# Altium footprint library RJ45 10P8C.PcbLib: 1 footprints
Each footprint in its own frame and in the unit in brackets; x right, y up, seen from the top. Pads: shape width x height; smd on the part's side, far side on the other; paste and mask are expansions set on the pad; w line width, h text height; cw(c..) or ccw(c..) is an arc to the next point about the centre after c.
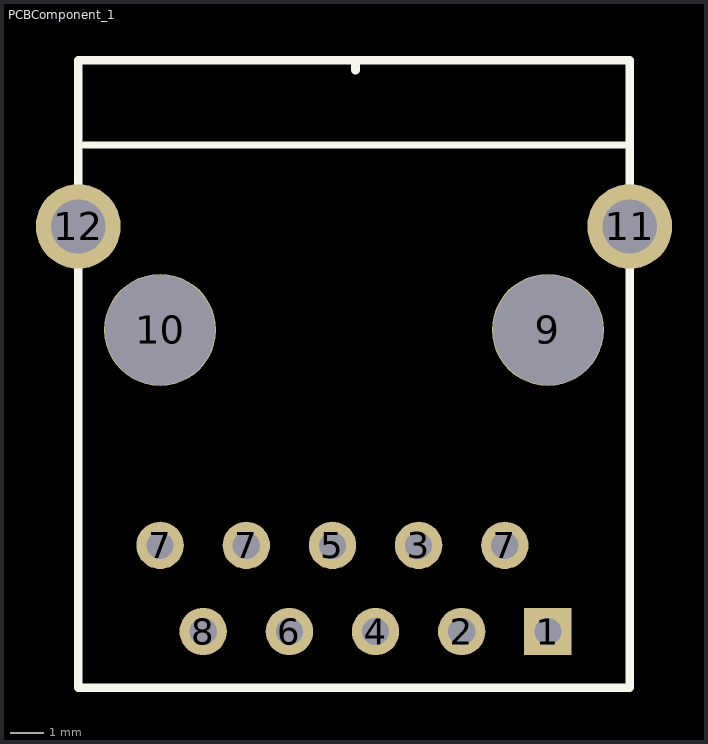
[diagram p0: the footprint, top view; thin cyan lines are the x and y axes]

## PCBComponent_1 [mil]
pads (14):
  rect 55x55 hole 31.5: 1(4840,-28970)
  round 55 hole 31.5: 2(4740,-28970) 3(4690,-28870) 4(4640,-28970) 5(4590,-28870) 6(4540,-28970) 7(4390,-28870) 7(4490,-28870) 7(4790,-28870) 8(4440,-28970)
  round 130 hole 127.95 unplated: 9(4840,-28620) 10(4390,-28620)
  round 98.42 hole 62.99: 11(4935,-28500) 12(4295,-28500)
Top Overlay:
  lines w8: 4301.81,-28405.43 4931.73,-28405.43
  lines w10: 4295,-29035.35 4934.65,-29035.35 4935,-29035 4935,-28500 4935,-28307.01 4295,-28307.01 4295,-28500 4295,-29035 ; 4616.77,-28318.82 4616.77,-28310.94
3D body: height 127.85, standoff -555.12, extent 4300,-29042.17 4929.92,-28313.83